# EAGLE library part OMEGA2S (library omega2s)
Onion Omega2S Check availability <https://pricing.snapeda.com/parts/OMEGA2S/Onion/view-part?ref=eda>
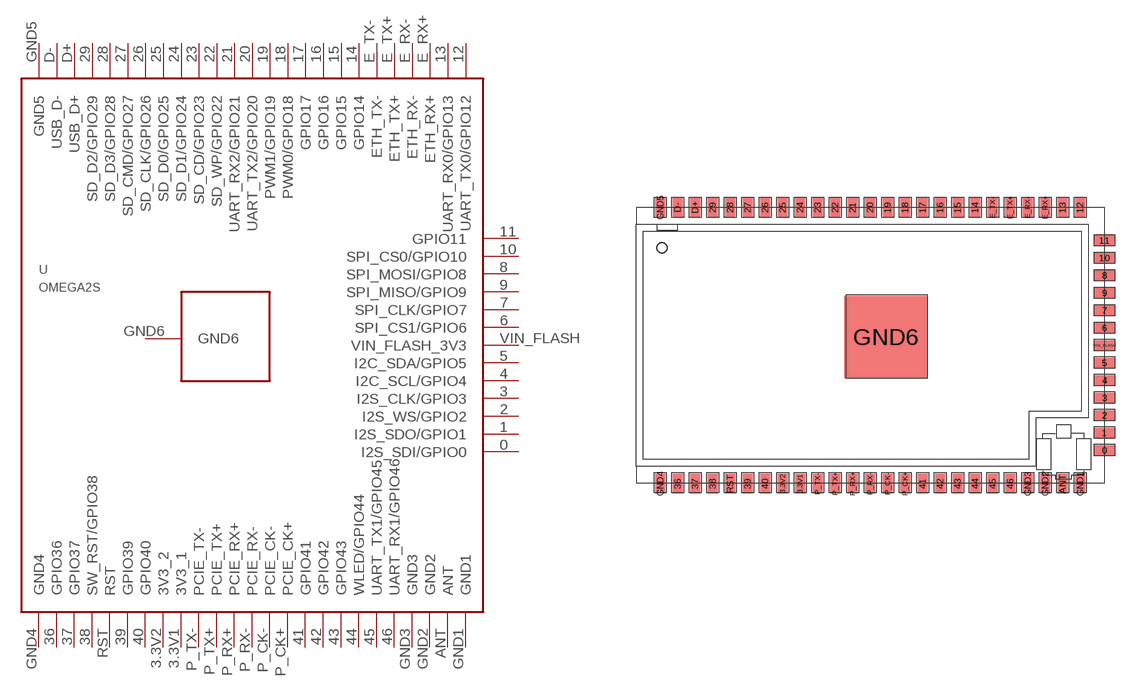
[diagram p0: symbol with the pads of OMEGA2S_PADS; footprint OMEGA2S_PADS]

Designator prefix -

## OMEGA2S (Availability: Not in stock; Description: MT7688 MediaTek Transceiver; 802.11 b/g/n (Wi-Fi, WiFi, WLAN) Evaluation Board; MF: Onion; MP: OMEGA2S; Package: Module Onion; Price: None)  [OMEGA2S_PADS]
0  I2S_SDI/GPIO0
1  I2S_SDO/GPIO1
2  I2S_WS/GPIO2
3  I2S_CLK/GPIO3
3.3V1  3V3_1
3.3V2  3V3_2
4  I2C_SCL/GPIO4
5  I2C_SDA/GPIO5
6  SPI_CS1/GPIO6
7  SPI_CLK/GPIO7
8  SPI_MOSI/GPIO8
9  SPI_MISO/GPIO9
10  SPI_CS0/GPIO10
11  GPIO11
12  UART_TX0/GPIO12
13  UART_RX0/GPIO13
14  GPIO14
15  GPIO15
16  GPIO16
17  GPIO17
18  PWM0/GPIO18
19  PWM1/GPIO19
20  UART_TX2/GPIO20
21  UART_RX2/GPIO21
22  SD_WP/GPIO22
23  SD_CD/GPIO23
24  SD_D1/GPIO24
25  SD_D0/GPIO25
26  SD_CLK/GPIO26
27  SD_CMD/GPIO27
28  SD_D3/GPIO28
29  SD_D2/GPIO29
36  GPIO36
37  GPIO37
38  SW_RST/GPIO38
39  GPIO39
40  GPIO40
41  GPIO41
42  GPIO42
43  GPIO43
44  WLED/GPIO44
45  UART_TX1/GPIO45
46  UART_RX1/GPIO46
ANT  ANT
D+  USB_D+
D-  USB_D-
E_RX+  ETH_RX+
E_RX-  ETH_RX-
E_TX+  ETH_TX+
E_TX-  ETH_TX-
GND1  GND1
GND2  GND2
GND3  GND3
GND4  GND4
GND5  GND5
GND6  GND6
P_CK+  PCIE_CK+
P_CK-  PCIE_CK-
P_RX+  PCIE_RX+
P_RX-  PCIE_RX-
P_TX+  PCIE_TX+
P_TX-  PCIE_TX-
RST  RST
VIN_FLASH  VIN_FLASH_3V3

## Footprint OMEGA2S_PADS (pad centres in mm)
Onion Omega2S
smd 1.422 x 0.711: 0 19.05,-8.763; 1 19.05,-7.493; 2 19.05,-6.223; 3 19.05,-4.953; 4 19.05,-3.683; 5 19.05,-2.413; 6 19.05,0.127; 7 19.05,1.397; 8 19.05,3.937; 9 19.05,2.667; 10 19.05,5.207; 11 19.05,6.477; VIN_FLASH 19.05,-1.143
smd 0.711 x 1.422: 3.3V1 -3.048,-11.176; 3.3V2 -4.318,-11.176; 12 17.272,8.89; 13 16.002,8.89; 14 9.652,8.89; 15 8.382,8.89; 16 7.112,8.89; 17 5.842,8.89; 18 4.572,8.89; 19 3.302,8.89; 20 2.032,8.89; 21 0.762,8.89; 22 -0.508,8.89; 23 -1.778,8.89; 24 -3.048,8.89; 25 -4.318,8.89; 26 -5.588,8.89; 27 -6.858,8.89; 28 -8.128,8.89; 29 -9.398,8.89; 36 -11.938,-11.176; 37 -10.668,-11.176; 38 -9.398,-11.176; 39 -6.858,-11.176; 40 -5.588,-11.176; 41 5.842,-11.176; 42 7.112,-11.176; 43 8.382,-11.176; 44 9.652,-11.176; 45 10.922,-11.176; 46 12.192,-11.176; ANT 16.002,-11.176; D+ -10.668,8.89; D- -11.938,8.89; E_RX+ 14.732,8.89; E_RX- 13.462,8.89; E_TX+ 12.192,8.89; E_TX- 10.922,8.89; GND1 17.272,-11.176; GND2 14.732,-11.176; GND3 13.462,-11.176; GND4 -13.208,-11.176; GND5 -13.208,8.89; P_CK+ 4.572,-11.176; P_CK- 3.302,-11.176; P_RX+ 0.762,-11.176; P_RX- 2.032,-11.176; P_TX+ -0.508,-11.176; P_TX- -1.778,-11.176; RST -8.128,-11.176
smd 6.045 x 5.969: GND6 3.175,-0.508